# Altium footprint library Button.PcbLib: 8 footprints
Each footprint in its own frame and in the unit in brackets; x right, y up, seen from the top. Pads: shape width x height; smd on the part's side, far side on the other; paste and mask are expansions set on the pad; w line width, h text height; cw(c..) or ccw(c..) is an arc to the next point about the centre after c.
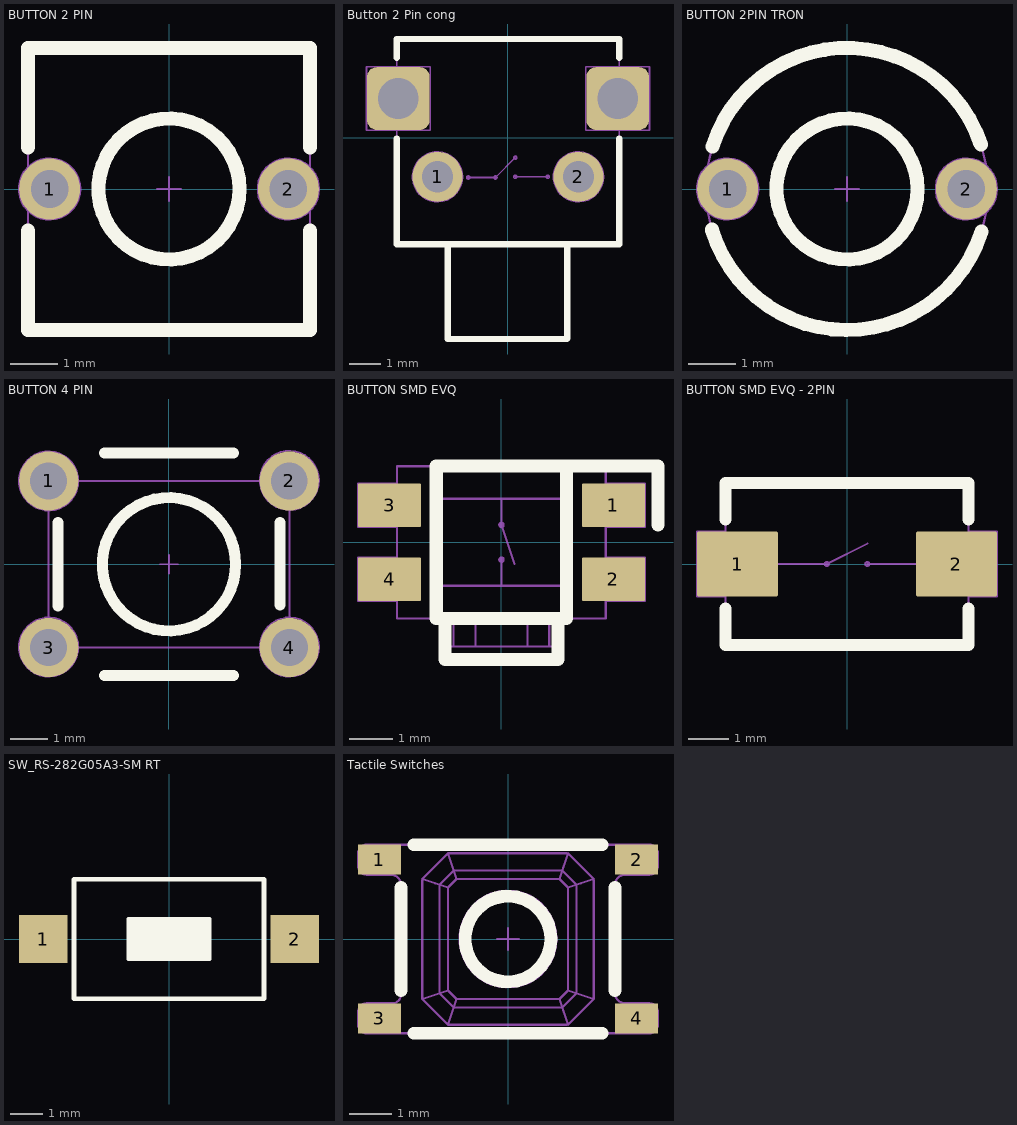
[diagram p0: the footprints below, top view; thin cyan lines are the x and y axes]

## BUTTON 2 PIN [mm]
height 4
pads (2):
  round 1.3 hole 0.8: 1(-2.54,0) 2(2.54,0)
Top Overlay:
  circle w0.3: c0,0 r1.5
  lines w0.3: -3,-0.889 -3,-3 3,-3 3,-0.889 ; -3,0.889 -3,3 3,3 3,0.889
Top HCB:
  circle w0.05: c0,0 r1.5
  circle w0.05: c2.54,0 r0.65
  circle w0.05: c-2.54,0 r0.65
  circle w0.05: c0,0 r1.5
  circle w0.05: c-2.54,0 r0.65
  circle w0.05: c2.54,0 r0.65
  lines w0.05: -3,-0.459 -3,-3 3,-3 3,-0.459 ; -3,0.459 -3,3 3,3 3,0.459 ; -0.25,0 0.25,0 ; 0,-0.25 0,0.25
  text "1" at -2.658,-0.305 h1
  text "2" at 2.342,-0.305 h1
3D body "19977.stp": height 5, standoff -14, extent -3,-3 3,3.2

## Button 2 Pin cong [mm]
height 7
pads (4):
  round 1.6 hole 1: 1(-2.25,-1.25) 2(2.25,-1.25)
  rrect30% 2x2 hole 1.3: ""(-3.5,1.25) ""(3.5,1.25)
Top Overlay:
  lines w0.2: -3.55,-0.025 -3.55,-3.4 3.55,-3.4 3.55,-0.025 ; -3.55,2.55 -3.55,3.15 0,3.15 3.55,3.15 3.55,2.55 ; -1.92,-6.425 -1.92,-3.425 ; -1.895,-6.425 1.875,-6.425 1.89,-6.41 1.89,-3.425
Top HCB:
  circle w0.05: c-0.401,-1.27 r0.05
  circle w0.05: c-1.27,-1.27 r0.05
  circle w0.05: c0.234,-0.635 r0.05
  circle w0.05: c0.234,-1.25 r0.05
  circle w0.05: c1.27,-1.25 r0.05
  circle w0.05: c-2.25,-1.25 r0.8
  circle w0.05: c2.25,-1.25 r0.8
  lines w0.05: -3.55,0.234 -3.55,-3.4 3.55,-3.4 3.55,0.234 ; -3.55,2.266 -3.55,3.15 0,3.15 3.55,3.15 3.55,2.266 ; -1.92,-6.425 -1.92,-3.425 ; -1.895,-6.425 1.875,-6.425 1.89,-6.41 1.89,-3.425 ; -1.27,-1.27 -0.401,-1.27 0.234,-0.635 ; 0.234,-1.25 1.27,-1.25 ; -4.516,0.234 -4.516,2.266 -2.484,2.266 -2.484,0.234 -4.516,0.234 ; 2.484,0.234 2.484,2.266 4.516,2.266 4.516,0.234 2.484,0.234
  text "1" at -2.667,-1.778 h1
  text "2" at 1.89,-1.778 h1
3D body "User Library-Button 4P Stand.STEP": height 7.4, standoff -3.2, extent -4.45,-5.525 4.5,2.325

## BUTTON 2PIN TRON [mm] "PIN TO PIN 5.08, W=6MM"
height 5
pads (2):
  round 1.3 hole 0.8: 1(-2.54,0) 2(2.54,0)
Top Overlay:
  circle w0.3: c0,0 r1.5
  lines w0.3: -2.873,-0.862 ccw(c0,0) 2.859,-0.91 ; -2.861,0.903 cw(c0,0) 2.846,0.949
Top HCB:
  circle w0.05: c0,0 r1.5
  circle w0.05: c2.54,0 r0.65
  circle w0.05: c-2.54,0 r0.65
  circle w0.05: c0,0 r1.5
  circle w0.05: c-2.54,0 r0.65
  circle w0.05: c2.54,0 r0.65
  circle w0.05: c0,0 r1.5
  lines w0.05: -2.956,-0.514 ccw(c0,0) 2.956,-0.514 ; -2.956,0.514 cw(c0,0) 2.952,0.537 ; -2.873,-0.862 ccw(c0,0) 2.859,-0.91 ; -2.861,0.903 cw(c0,0) 2.846,0.949 ; -0.25,0 0.25,0 ; 0,-0.25 0,0.25
  text "1" at -2.658,-0.322 h1
  text "2" at 2.327,-0.322 h1
3D body "43461.stp": height 4.4, standoff -8.9, extent -3.675,-3.444 3.575,3.594

## BUTTON 4 PIN [mm]
height 4
pads (4):
  round 1.6 hole 1: 1(-3.25,2.25) 3(-3.25,-2.25) 4(3.25,-2.25)
  round 1.6 hole 0.99: 2(3.25,2.25)
Top Overlay:
  circle w0.3: c0,0 r1.8
  lines w0.3: -2.995,-1.129 -2.995,1.129 ; -1.74,-3 1.74,-3 ; -1.74,3 1.74,3 ; 2.995,-1.1 2.995,1.129
Top HCB:
  circle w0.05: c-3.25,-2.235 r0.8
  circle w0.05: c3.25,-2.235 r0.8
  circle w0.05: c3.25,2.265 r0.8
  circle w0.05: c0,0 r1.8
  circle w0.05: c0,0 r1.8
  circle w0.05: c-3.25,2.25 r0.8
  lines w0.05: -3.25,-1.425 -3.25,1.45 ; -2.45,-2.25 2.45,-2.25 ; -2.45,2.25 2.45,2.25 ; -0.25,0 0.25,0 ; 0,-0.25 0,0.25 ; 3.25,-1.444 3.25,1.465
  text "2" at 3.052,1.945 h1
  text "1" at -3.368,1.93 h1
  text "3" at -3.42,-2.56 h1
  text "4" at 3.047,-2.555 h1
3D body "User Library-TPxxxx (Switch).step": height 5.4, standoff -3.09, extent -3.987,-3 3.987,3

## BUTTON SMD EVQ [mm] "EVQ-PUB02K"
height 1.68
pads (4):
  rrect5% 1.45x1 smd mask+0.1: 1(2.575,0.85) 2(2.575,-0.85) 3(-2.575,0.85) 4(-2.575,-0.85)
Top Overlay:
  lines w0.3: -1.3,-1.75 -1.3,-2.7 1.3,-2.7 1.3,-1.8 ; 3.6,0.4 3.6,1.75 1.5,1.75 ; 1.5,1.75 1.5,-1.75 -1.5,-1.75 -1.5,1.75 1.5,1.75
Top HCB:
  circle w0.05: c-1.5,-1 r0.05
  circle w0.05: c-1.5,1 r0.05
  circle w0.05: c1.5,-1 r0.05
  circle w0.05: c1.5,1 r0.05
  circle w0.05: c0,-0.4 r0.05
  circle w0.05: c0,0.4 r0.05
  lines w0.05: -1.5,-1 1.5,-1 ; -1.5,1 1.5,1 ; -1.1,-2.4 -1.1,-1.75 ; -0.6,-2.4 -0.6,-1.75 ; 0,-1 0,-0.4 ; 0,1 0,0.4 0.3,-0.5 ; 0.6,-2.4 0.6,-1.75 ; 1.1,-2.4 1.1,-1.75 ; -3.3,-1.35 -2.4,-1.35 -2.4,-0.35 -3.3,-0.35 -3.3,-1.35 ; -3.3,0.35 -2.4,0.35 -2.4,1.35 -3.3,1.35 -3.3,0.35 ; -2.4,-1.75 -2.4,1.75 2.4,1.75 2.4,-1.75 -2.4,-1.75 ; -1.3,-2.75 -1.3,-2.4 1.3,-2.4 1.3,-2.75 -1.3,-2.75 ; 2.4,-1.35 3.3,-1.35 3.3,-0.35 2.4,-0.35 2.4,-1.35 ; 2.4,0.35 2.4,1.35 3.3,1.35 3.3,0.35 2.4,0.35
  text "4" at -3.088,-1.064 h0.8
  text "3" at -3.088,0.636 h0.8
  text "2" at 2.612,-1.064 h0.8
  text "1" at 2.688,0.632 h0.8
3D body "User Library-EVQP7-JA-01P.step": height 1.4, standoff 0.05, extent -2.35,-2.1 2.35,1.45

## BUTTON SMD EVQ - 2PIN [mm] "EVQ-PNF04M"
height 4.3
pads (2):
  rrect5% 2x1.6 smd mask+0.1: 1(-2.7,0) 2(2.7,0)
Top Overlay:
  lines w0.3: -3,-1.1 -3,-2 3,-2 3,-1.1 ; -3,1.1 -3,2 3,2 3,1.1
Top HCB:
  circle w0.05: c2,0 r0.05
  circle w0.05: c-2,0 r0.05
  circle w0.05: c0.5,0 r0.05
  circle w0.05: c-0.5,0 r0.05
  lines w0.05: -2,0 -0.5,0 0.5,0.5 ; 0.5,0 2,0 ; -3.7,-0.8 -3.7,0.8 -3,0.8 -3,-0.8 -3.7,-0.8 ; -3,-2 3,-2 3,2 -3,2 -3,-2 ; 3,-0.8 3,0.8 3.7,0.8 3.7,-0.8 3,-0.8
3D body "User Library-EVQ-PE105K.step": height 5, standoff 0, extent -3.6,-1.75 3.6,1.75

## SW_RS-282G05A3-SM RT [mm] "SWITCH TACTILE SPST-NO 0.05A 12V"
height 2.5
pads (2):
  rect 1.5x1.5 smd mask+0.1: 1(-3.9,0) 2(3.9,0)
Top Overlay:
  rectangle: -1.27,-0.635 1.27,0.635
  lines w0.1: -1.27,-0.635 1.27,-0.635 1.27,0.635 -1.27,0.635 -1.27,-0.635
  lines w0.15: -2.95,-1.854 -2.95,1.854 2.95,1.854 2.95,-1.854 -2.95,-1.854
Mechanical 15:
  lines w0.1: -0.5,0 0.5,0 ; 0,-0.5 0,0.5
3D body "Tactile Switch_RS-282G05A3-SM RT.stp": height 2.5, standoff -0.02, extent -4,-1.8 4,1.8

## Tactile Switches [mm] "Tactile Switches 50mA 12VDC, 5.2x5.2mm, 1.5mm H, 160gf, G leads, No ground pin, metal actuator"
height 2
pads (4):
  rect 1x0.7 smd: 1(-3,1.85) 2(3,1.85) 3(-3,-1.85) 4(3,-1.85)
Top Overlay:
  circle w0.3: c0,0 r1
  lines w0.3: -2.5,-1.2 -2.5,1.2 ; -2.2,-2.2 2.2,-2.2 ; -2.2,2.2 2.2,2.2 ; 2.5,-1.2 2.5,1.2
Top HCB:
  circle w0.05: c0,0 r1
  circle w0.05: c0,0 r1.131
  lines w0.05: -2,1.367 -2,-1.4 ; -1.7,1.3 -1.6,1.267 ; -0.25,0 0.25,0 ; 0,-0.25 0,0.25 ; 1.3,-1.7 1.267,-1.6 ; 1.3,1.7 1.267,1.6 ; 1.367,-2 -1.4,-2 ; 1.367,2 -1.4,2 ; 1.7,1.3 1.6,1.267 ; 2,1.367 2,-1.4 ; 2.5,-1.267 2.5,1.267 ; 2.5,-1.3 2.5,-1.267 ccw(c2.733,-1.267) 2.733,-1.5 3.3,-1.5 cw(c3.3,-1.7) 3.5,-1.7 3.5,-1.85 3.5,-2 cw(c3.3,-2) 3.3,-2.2 -3.3,-2.2 cw(c-3.3,-2) -3.5,-2 -3.5,-1.85 -3.5,-1.7 cw(c-3.3,-1.7) -3.3,-1.5 ; 2.5,1.3 2.5,1.267 cw(c2.733,1.267) 2.733,1.5 3.3,1.5 ccw(c3.3,1.7) 3.5,1.7 3.5,1.85 3.5,2 ccw(c3.3,2) 3.3,2.2 -3.3,2.2 ccw(c-3.3,2) -3.5,2 -3.5,1.85 -3.5,1.7 ccw(c-3.3,1.7) -3.3,1.5 -2.733,1.5 cw(c-2.733,1.267) -2.5,1.267 -2.5,-1.275 -2.5,-1.3 cw(c-2.7,-1.3) -2.7,-1.5 -3.3,-1.5 ; -3.3,-1.5 ccw(c-3.3,-1.5) -3.3,-1.5 ; -2,-1.4 -1.4,-2 ; -2,-1.4 -1.4,-1.2 ; -2,-1.4 -1.4,-1.2 ; -2,-1.4 -1.4,-1.2 ; -2,-1.4 -1.4,-2 ; -2,1.4 -1.4,2 ; -2,1.4 -1.4,1.2 ; -2,1.4 -1.4,1.2 ; -2,1.4 -1.4,2 ; -1.6,-1.267 -1.267,-1.6 ; -1.6,-1.267 -1.6,1.267 ; -1.6,-1.267 -1.267,-1.6 ; -1.6,1.267 -1.267,1.6 ; -1.6,1.267 -1.267,1.6 ; -1.4,-2 -1.2,-1.4 ; -1.4,-2 -1.2,-1.4 ; -1.4,-2 -1.2,-1.4 ; -1.4,-1.2 -1.2,-1.4 ; -1.4,-1.2 -1.4,1.2 ; -1.4,-1.2 -1.2,-1.4 ; -1.4,1.2 -1.2,1.4 ; -1.4,1.2 -1.2,1.4 ; -1.4,2 -1.2,1.4 ; -1.4,2 -1.2,1.4 ; -1.4,2 -1.2,1.4 ; -1.267,-1.6 1.267,-1.6 ; -1.267,1.6 1.267,1.6 ; -1.2,-1.4 1.2,-1.4 ; -1.2,1.4 1.2,1.4 ; 1.2,-1.4 1.4,-1.2 ; 1.2,-1.4 1.4,-2 ; 1.2,-1.4 1.4,-1.2 ; 1.2,-1.4 1.4,-2 ; 1.2,1.4 1.4,1.2 ; 1.2,1.4 1.4,2 ; 1.2,1.4 1.4,1.2 ; 1.2,1.4 1.4,2 ; 1.267,-1.6 1.6,-1.267 ; 1.267,-1.6 1.6,-1.267 ; 1.267,1.6 1.6,1.267 ; 1.267,1.6 1.6,1.267 ; 1.4,-2 2,-1.4 ; 1.4,-2 2,-1.4 ; 1.4,-1.2 2,-1.4 ; 1.4,-1.2 1.4,1.2 ; 1.4,-1.2 2,-1.4 ; 1.4,-1.2 2,-1.4 ; 1.4,1.2 2,1.4 ; 1.4,1.2 2,1.4 ; 1.4,2 2,1.4 ; 1.4,2 2,1.4 ; 1.6,-1.267 1.6,1.267
3D body "PTS526_SM15_SMTR2_LFS.stp": height 1.55, standoff 0, extent -3.2,-2.6 3.2,2.6